# Altium footprint library Drossel_30A_10uH.PcbLib: 1 footprints
Each footprint in its own frame and in the unit in brackets; x right, y up, seen from the top. Pads: shape width x height; smd on the part's side, far side on the other; paste and mask are expansions set on the pad; w line width, h text height; cw(c..) or ccw(c..) is an arc to the next point about the centre after c.
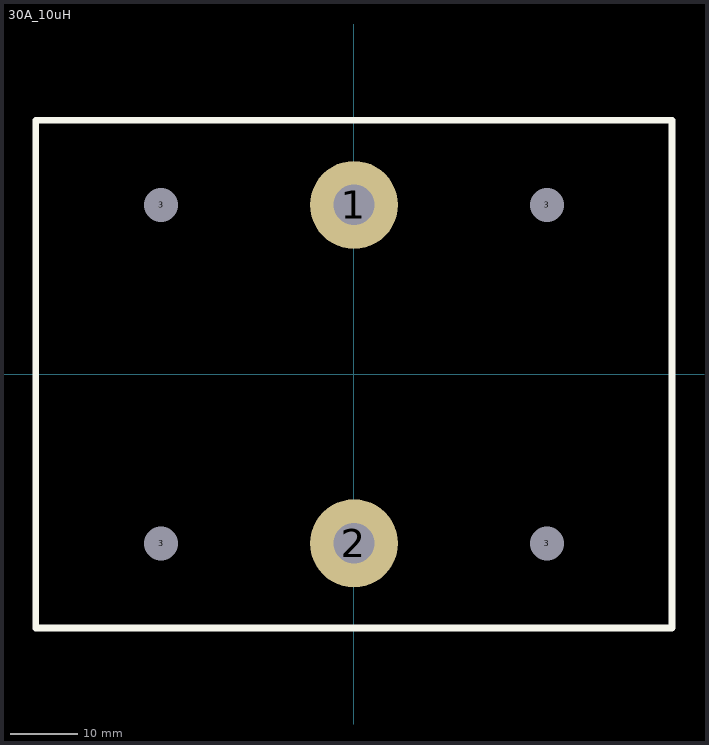
[diagram p0: the footprint, top view; thin cyan lines are the x and y axes]

## 30A_10uH [mm]
pads (6):
  round 13 hole 6: 1(0,25) 2(0,-25)
  round 1.524 hole 5: 3(-28.5,-25) 3(-28.5,25) 3(28.5,-25) 3(28.5,25)
Top Overlay:
  lines w1: -47,-37.5 47,-37.5 47,37.5 -47,37.5 -47,-37.5
Bottom Overlay:
  lines w1: -46.99,-37.465 47.01,-37.465 47.01,37.535 -46.99,37.535 -46.99,-37.465
3D body "Силовой дроссель 30А 10мГн.STEP": height 99.93, standoff -7.81, extent -46.947,-37.325 46.947,37.425